# EAGLE library part EPCS-FALSH (library 0myLib)
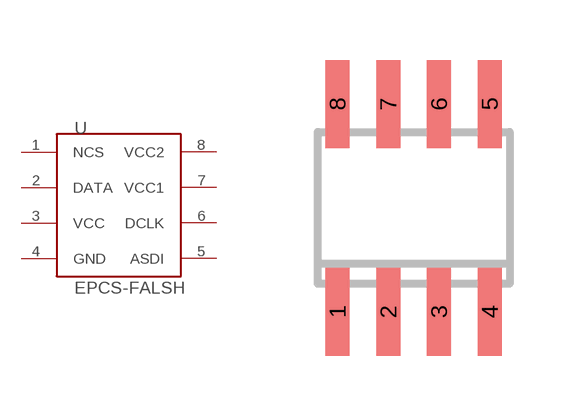
[diagram p66: symbol with the pads of SO08; footprint SO08]

Designator prefix -

## EPCS-FALSH  [SO08]
1  NCS
2  DATA
3  VCC
4  GND
5  ASDI
6  DCLK
7  VCC1
8  VCC2

## Footprint SO08 (pad centres in mm)
Small Outline Package 8 NS Package M08A
smd 0.6 x 2.2: 1 -1.905,-2.6; 2 -0.635,-2.6; 3 0.635,-2.6; 4 1.905,-2.6; 5 1.905,2.6; 6 0.635,2.6; 7 -0.635,2.6; 8 -1.905,2.6